# Altium schematic symbol library L7809ABD2T-TR.SchLib: 1 symbol
Pins are listed as number, name and electrical type; pins without a type are passive.

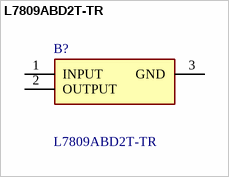
[diagram p0: symbol L7809ABD2T-TR]

## L7809ABD2T-TR
designator B?
STMICROELECTRONICS - L7809ABD2T-TR - LINEAR VOLT REG, 1.5A, 9V, TO-263-3; Geometry.Height: 4.6mm; Manufacturer_Name: STMicroelectronics; Manufacturer_Part_Number: L7809ABD2T-TR; Mouser Part Number: 511-L7809ABD2T-TR; Mouser Price/Stock: https://www.mouser.co.uk/ProductDetail/STMicroelectronics/L7809ABD2T-TR?qs=za26I2nnnxk5FkRchhHExw%3D%3D; Arrow Part Number: L7809ABD2T-TR; Arrow Price/Stock: https://www.arrow.com/en/products/l7809abd2t-tr/stmicroelectronics?region=nac; Datasheet Link: https://www.st.com/resource/en/datasheet/l78.pdf
footprint STB30NM60ND
pins: 1 INPUT, 2 OUTPUT, 3 GND